# EAGLE library part ELECTRON (library Puffin)
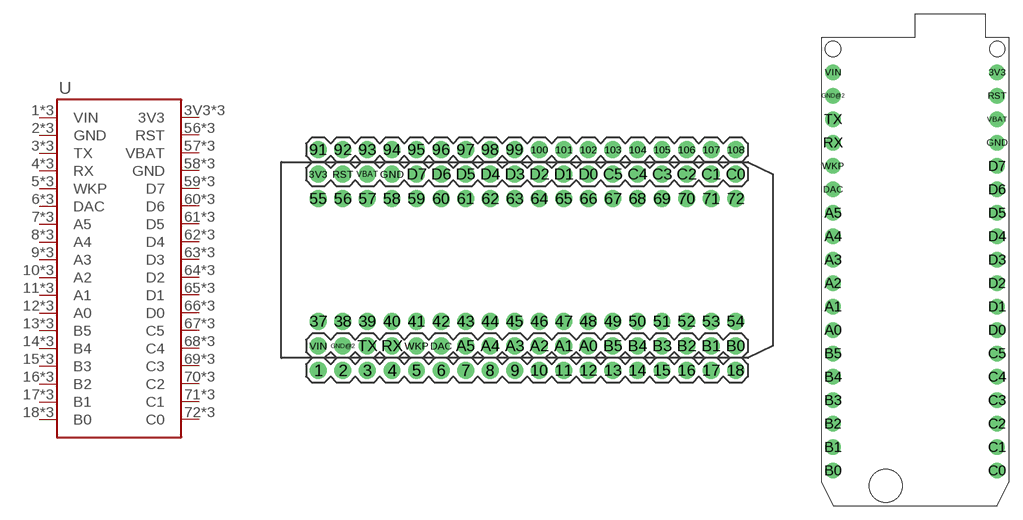
[diagram p10: symbol with the pads of ELECTRON_DUAL-ROW; footprints ELECTRON_DUAL-ROW, ELECTRON]

Designator prefix -

## ELECTRONDUALROW  [ELECTRON_DUAL-ROW]
1  VIN  pwr
2  GND  pwr
3  TX
3V3  3V3  pwr
4  RX
5  WKP
6  DAC
7  A5
8  A4
9  A3
10  A2
11  A1
12  A0
13  B5
14  B4
15  B3
16  B2
17  B1
18  B0
37  VIN  pwr
38  GND  pwr
39  TX
40  RX
41  WKP
42  DAC
43  A5
44  A4
45  A3
46  A2
47  A1
48  A0
49  B5
50  B4
51  B3
52  B2
53  B1
54  B0
55  3V3  pwr
56  RST
57  VBAT  pas
58  GND  pwr
59  D7
60  D6
61  D5
62  D4
63  D3
64  D2
65  D1
66  D0
67  C5
68  C4
69  C3
70  C2
71  C1
72  C0
91  3V3  pwr
92  RST
93  VBAT  pas
94  GND  pwr
95  D7
96  D6
97  D5
98  D4
99  D3
100  D2
101  D1
102  D0
103  C5
104  C4
105  C3
106  C2
107  C1
108  C0
A0  A0
A1  A1
A2  A2
A3  A3
A4  A4
A5  A5
B0  B0
B1  B1
B2  B2
B3  B3
B4  B4
B5  B5
C0  C0
C1  C1
C2  C2
C3  C3
C4  C4
C5  C5
D0  D0
D1  D1
D2  D2
D3  D3
D4  D4
D5  D5
D6  D6
D7  D7
DAC  DAC
GND  GND  pwr
GND@2  GND  pwr
RST  RST
RX  RX
TX  TX
VBAT  VBAT  pas
VIN  VIN  pwr
WKP  WKP

## ELECTRON  [ELECTRON]
3V3  3V3  pwr
A0  A0
A1  A1
A2  A2
A3  A3
A4  A4
A5  A5
B0  B0
B1  B1
B2  B2
B3  B3
B4  B4
B5  B5
C0  C0
C1  C1
C2  C2
C3  C3
C4  C4
C5  C5
D0  D0
D1  D1
D2  D2
D3  D3
D4  D4
D5  D5
D6  D6
D7  D7
DAC  DAC
GND  GND  pwr
GND@2  GND  pwr
RST  RST
RX  RX
TX  TX
VBAT  VBAT  pas
VIN  VIN  pwr
WKP  WKP

## Footprint ELECTRON_DUAL-ROW (pad centres in mm)
Electron socket for a dual-row header for easy prototyping, with the pins also duplicated to unpopulated through-holes for easy soldering.
drill 0.889 pad 1.753: 1 1.27,2.54; 2 3.81,2.54; 3 6.35,2.54; 3V3 1.27,22.86; 4 8.89,2.54; 5 11.43,2.54; 6 13.97,2.54; 7 16.51,2.54; 8 19.05,2.54; 9 21.59,2.54; 10 24.13,2.54; 11 26.67,2.54; 12 29.21,2.54; 13 31.75,2.54; 14 34.29,2.54; 15 36.83,2.54; 16 39.37,2.54; 17 41.91,2.54; 18 44.45,2.54; 37 1.27,7.62; 38 3.81,7.62; 39 6.35,7.62; 40 8.89,7.62; 41 11.43,7.62; 42 13.97,7.62; 43 16.51,7.62; 44 19.05,7.62; 45 21.59,7.62; 46 24.13,7.62; 47 26.67,7.62; 48 29.21,7.62; 49 31.75,7.62; 50 34.29,7.62; 51 36.83,7.62; 52 39.37,7.62; 53 41.91,7.62; 54 44.45,7.62; 55 1.27,20.32; 56 3.81,20.32; 57 6.35,20.32; 58 8.89,20.32; 59 11.43,20.32; 60 13.97,20.32; 61 16.51,20.32; 62 19.05,20.32; 63 21.59,20.32; 64 24.13,20.32; 65 26.67,20.32; 66 29.21,20.32; 67 31.75,20.32; 68 34.29,20.32; 69 36.83,20.32; 70 39.37,20.32; 71 41.91,20.32; 72 44.45,20.32; 91 1.27,25.4; 92 3.81,25.4; 93 6.35,25.4; 94 8.89,25.4; 95 11.43,25.4; 96 13.97,25.4; 97 16.51,25.4; 98 19.05,25.4; 99 21.59,25.4; 100 24.13,25.4; 101 26.67,25.4; 102 29.21,25.4; 103 31.75,25.4; 104 34.29,25.4; 105 36.83,25.4; 106 39.37,25.4; 107 41.91,25.4; 108 44.45,25.4; A0 29.21,5.08; A1 26.67,5.08; A2 24.13,5.08; A3 21.59,5.08; A4 19.05,5.08; A5 16.51,5.08; B0 44.45,5.08; B1 41.91,5.08; B2 39.37,5.08; B3 36.83,5.08; B4 34.29,5.08; B5 31.75,5.08; C0 44.45,22.86; C1 41.91,22.86; C2 39.37,22.86; C3 36.83,22.86; C4 34.29,22.86; C5 31.75,22.86; D0 29.21,22.86; D1 26.67,22.86; D2 24.13,22.86; D3 21.59,22.86; D4 19.05,22.86; D5 16.51,22.86; D6 13.97,22.86; D7 11.43,22.86; DAC 13.97,5.08; GND 8.89,22.86; GND@2 3.81,5.08; RST 3.81,22.86; RX 8.89,5.08; TX 6.35,5.08; VBAT 6.35,22.86; VIN 1.27,5.08; WKP 11.43,5.08

## Footprint ELECTRON (pad centres in mm)
drill 0.889 pad 1.676: 3V3 17.78,0; A0 0,-27.94; A1 0,-25.4; A2 0,-22.86; A3 0,-20.32; A4 0,-17.78; A5 0,-15.24; B0 0,-43.18; B1 0,-40.64; B2 0,-38.1; B3 0,-35.56; B4 0,-33.02; B5 0,-30.48; C0 17.78,-43.18; C1 17.78,-40.64; C2 17.78,-38.1; C3 17.78,-35.56; C4 17.78,-33.02; C5 17.78,-30.48; D0 17.78,-27.94; D1 17.78,-25.4; D2 17.78,-22.86; D3 17.78,-20.32; D4 17.78,-17.78; D5 17.78,-15.24; D6 17.78,-12.7; D7 17.78,-10.16; DAC 0,-12.7; GND 17.78,-7.62; GND@2 0,-2.54; RST 17.78,-2.54; RX 0,-7.62; TX 0,-5.08; VBAT 17.78,-5.08; VIN 0,0; WKP 0,-10.16